# EAGLE library part LT3757 (library IC)
Boost, Flyback, SEPIC and Inverting Controller
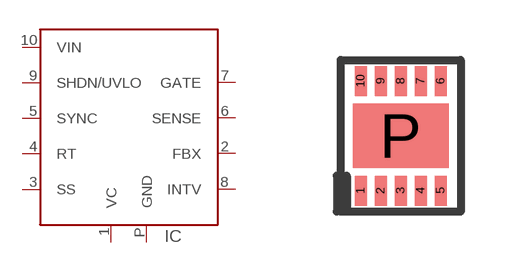
[diagram p180: symbol with the pads of DFN10; footprint DFN10]

Designator prefix IC

## LT3757DD  [DFN10]
1  VC
2  FBX
3  SS
4  RT
5  SYNC
6  SENSE
7  GATE
8  INTV
9  SHDN/UVLO
10  VIN
P  GND

## Footprint DFN10 (pad centres in mm)
DFN 10 lead package, Linear Tech
smd 0.3 x 0.75: 1 -1,-1.375; 2 -0.5,-1.375; 3 0,-1.375; 4 0.5,-1.375; 5 1,-1.375; 6 1,1.375; 7 0.5,1.375; 8 0,1.375; 9 -0.5,1.375; 10 -1,1.375
smd 2.4 x 1.6: P 0,0